# Altium schematic symbol library LEDScreen.SchLib: 1 symbol
Pins are listed as number, name and electrical type; pins without a type are passive.

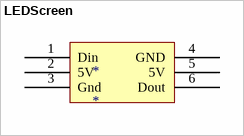
[diagram p0: symbol LEDScreen]

## LEDScreen
designator *
footprint LEDScreen
pins: 1 Din, 2 5V, 3 Gnd, 4 GND, 5 5V, 6 Dout